# Altium footprint library 4_channel_terminal_block.PcbLib: 1 footprints
Each footprint in its own frame and in the unit in brackets; x right, y up, seen from the top. Pads: shape width x height; smd on the part's side, far side on the other; paste and mask are expansions set on the pad; w line width, h text height; cw(c..) or ccw(c..) is an arc to the next point about the centre after c.
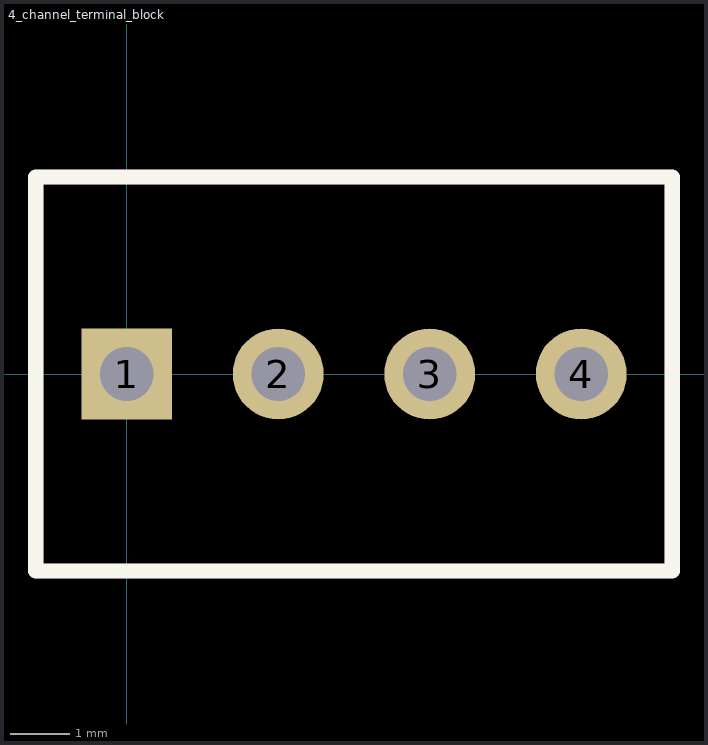
[diagram p0: the footprint, top view; thin cyan lines are the x and y axes]

## 4_channel_terminal_block [mil] "OSTVN04A150 - 4 Position Wire to Board Terminal Block Horizontal with Board 0.100\" (2.54mm) Through Hole"
height 334.65
pads (4):
  rect 60x60 hole 35.43: 1(0,0)
  round 60 hole 35.43: 2(100,0) 3(200,0) 4(300,0)
Top Overlay:
  lines w10: -60,-130 -60,130 360,130 360,-130 -60,-130
Keep-Out Layer:
  lines w10: -60,-130 -60,130 360,130 360,-130 -60,-130